# EAGLE library part WE-BMS_74941302 (library WE-BMS)
WE-BMS Transformer for Battery Management Systems Characteristics Supports BMS isolation Supports serial daisy chain isoSPI and SPI 800 VDC and 1000 VDC working voltage AEC-Q200 qualification Operating temperature: -40°C up to +125°C Applications Solar energy storage Energy Storage systems Uninterrupted Power Supply (UPS) E-bikes, E-scooters <https://www.we-online.com/components/media/o489329v209%20UtBMS_Group.jpg> Details see: www.we-online.com/en/components/products/WE-BMS <www.we-online.com/catalog/WE-BMS/?utm_source=eagle_model&utm_medium=description_link&utm_campaign=eisos_eagle> Created by Ella Wu 2022-04-13 2022 (C) Würth Elektronik
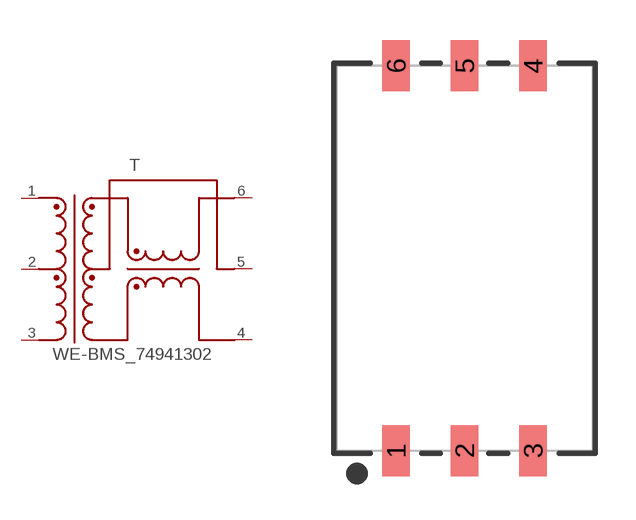
[diagram p7: symbol with the pads of WE-BMS_74941302; footprint WE-BMS_74941302]

Designator prefix T

## WE-BMS_74941302 (CREEPAGE-DISTANCE: 10mm; DATASHEET-URL: https://www.we-online.com/redexpert/spec/74941302?ae; HEIGHT: 3.45mm; INSULATION-TEST-VOLTAGE: 4300V(DC); LENGTH: 9.5mm; MOUNT: SMT; NUMBER-OF-PORTS: 1; PART-NUMBER: 74941302; VALUE: 74941302; WIDTH: 15.4mm; WORKING-VOLTAGE: 1000V(DC))  [WE-BMS_74941302]
1  1  pas
2  2  pas
3  3  pas
4  4  pas
5  5  pas
6  6  pas

## Footprint WE-BMS_74941302 (pad centres in mm)
smd 1.02 x 1.89: 1 -2.54,-7.145; 2 0,-7.145; 3 2.54,-7.145; 4 2.54,7.145; 5 0,7.145; 6 -2.54,7.145